# Altium footprint library GenericBatteries.PcbLib: 1 footprints
Each footprint in its own frame and in the unit in brackets; x right, y up, seen from the top. Pads: shape width x height; smd on the part's side, far side on the other; paste and mask are expansions set on the pad; w line width, h text height; cw(c..) or ccw(c..) is an arc to the next point about the centre after c.
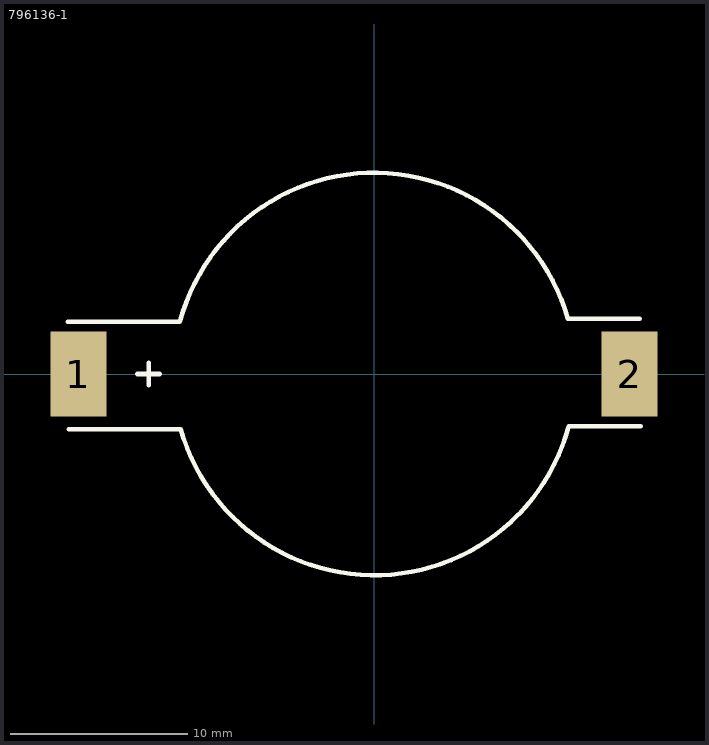
[diagram p0: the footprint, top view; thin cyan lines are the x and y axes]

## 796136-1 [mm] "Battery Connector, Surface Mount"
height 6
pads (2):
  rect 3.15x4.78 smd: 1(-16.663,0) 2(14.377,0)
Top Overlay:
  lines w0.254: -17.261,2.932 -10.944,2.932 cw(c0,0) 10.891,3.123 14.934,3.123 ; -17.208,-3.123 -10.891,-3.123 ccw(c0,0) 10.944,-2.932 14.987,-2.932 ; -13.335,0 -12.065,0 ; -12.7,-0.635 -12.7,0.635
3D body: height 6.52, standoff -0.01, extent -17.309,-9.525 15.012,9.525